# EAGLE library part SE2431L-R (library SE2431L-R)
RF Front End 2.4GHz Zigbee Rx Gain 12.5 dB Source: Datasheet <https://datasheet.datasheetarchive.com/originals/distributors/DKDS-19/379164.pdf>
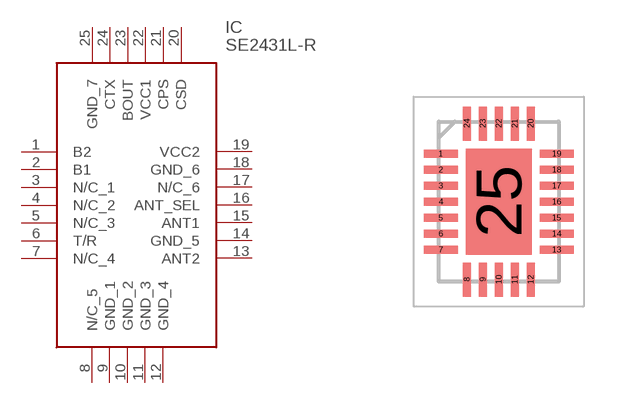
[diagram p0: symbol with the pads of QFN40P300X400X90-25N; footprint QFN40P300X400X90-25N]

Designator prefix IC

## SE2431L-R (Description: RF Front End 2.4GHz Zigbee Rx Gain 12.5 dB; Height: 0.9mm; Manufacturer_Name: Skyworks; Manufacturer_Part_Number: SE2431L-R; Mouser_Part_Number: 873-SE2431L-R; Mouser_Price-Stock: https://www.mouser.co.uk/ProductDetail/Skyworks-Solutions-Inc/SE2431L-R?qs=WMHGlxXAKT%2F78rTVRPIOpw%3D%3D)  [QFN40P300X400X90-25N]
1  B2
2  B1
3  N/C_1
4  N/C_2
5  N/C_3
6  T/R
7  N/C_4
8  N/C_5
9  GND_1
10  GND_2
11  GND_3
12  GND_4
13  ANT2
14  GND_5
15  ANT1
16  ANT_SEL
17  N/C_6
18  GND_6
19  VCC2
20  CSD
21  CPS
22  VCC1
23  BOUT
24  CTX
25  GND_7

## Footprint QFN40P300X400X90-25N (pad centres in mm)
SE2431L-R
smd 0.85 x 0.2: 1 -1.45,1.2; 2 -1.45,0.8; 3 -1.45,0.4; 4 -1.45,0; 5 -1.45,-0.4; 6 -1.45,-0.8; 7 -1.45,-1.2; 13 1.45,-1.2; 14 1.45,-0.8; 15 1.45,-0.4; 16 1.45,0; 17 1.45,0.4; 18 1.45,0.8; 19 1.45,1.2
smd 0.2 x 0.85: 8 -0.8,-1.95; 9 -0.4,-1.95; 10 0,-1.95; 11 0.4,-1.95; 12 0.8,-1.95; 20 0.8,1.95; 21 0.4,1.95; 22 0,1.95; 23 -0.4,1.95; 24 -0.8,1.95
smd 1.65 x 2.65: 25 0,0